# Altium footprint library 41.PcbLib: 28 footprints (part 1 of 2)
Each footprint in its own frame and in the unit in brackets; x right, y up, seen from the top. Pads: shape width x height; smd on the part's side, far side on the other; paste and mask are expansions set on the pad; w line width, h text height; cw(c..) or ccw(c..) is an arc to the next point about the centre after c.
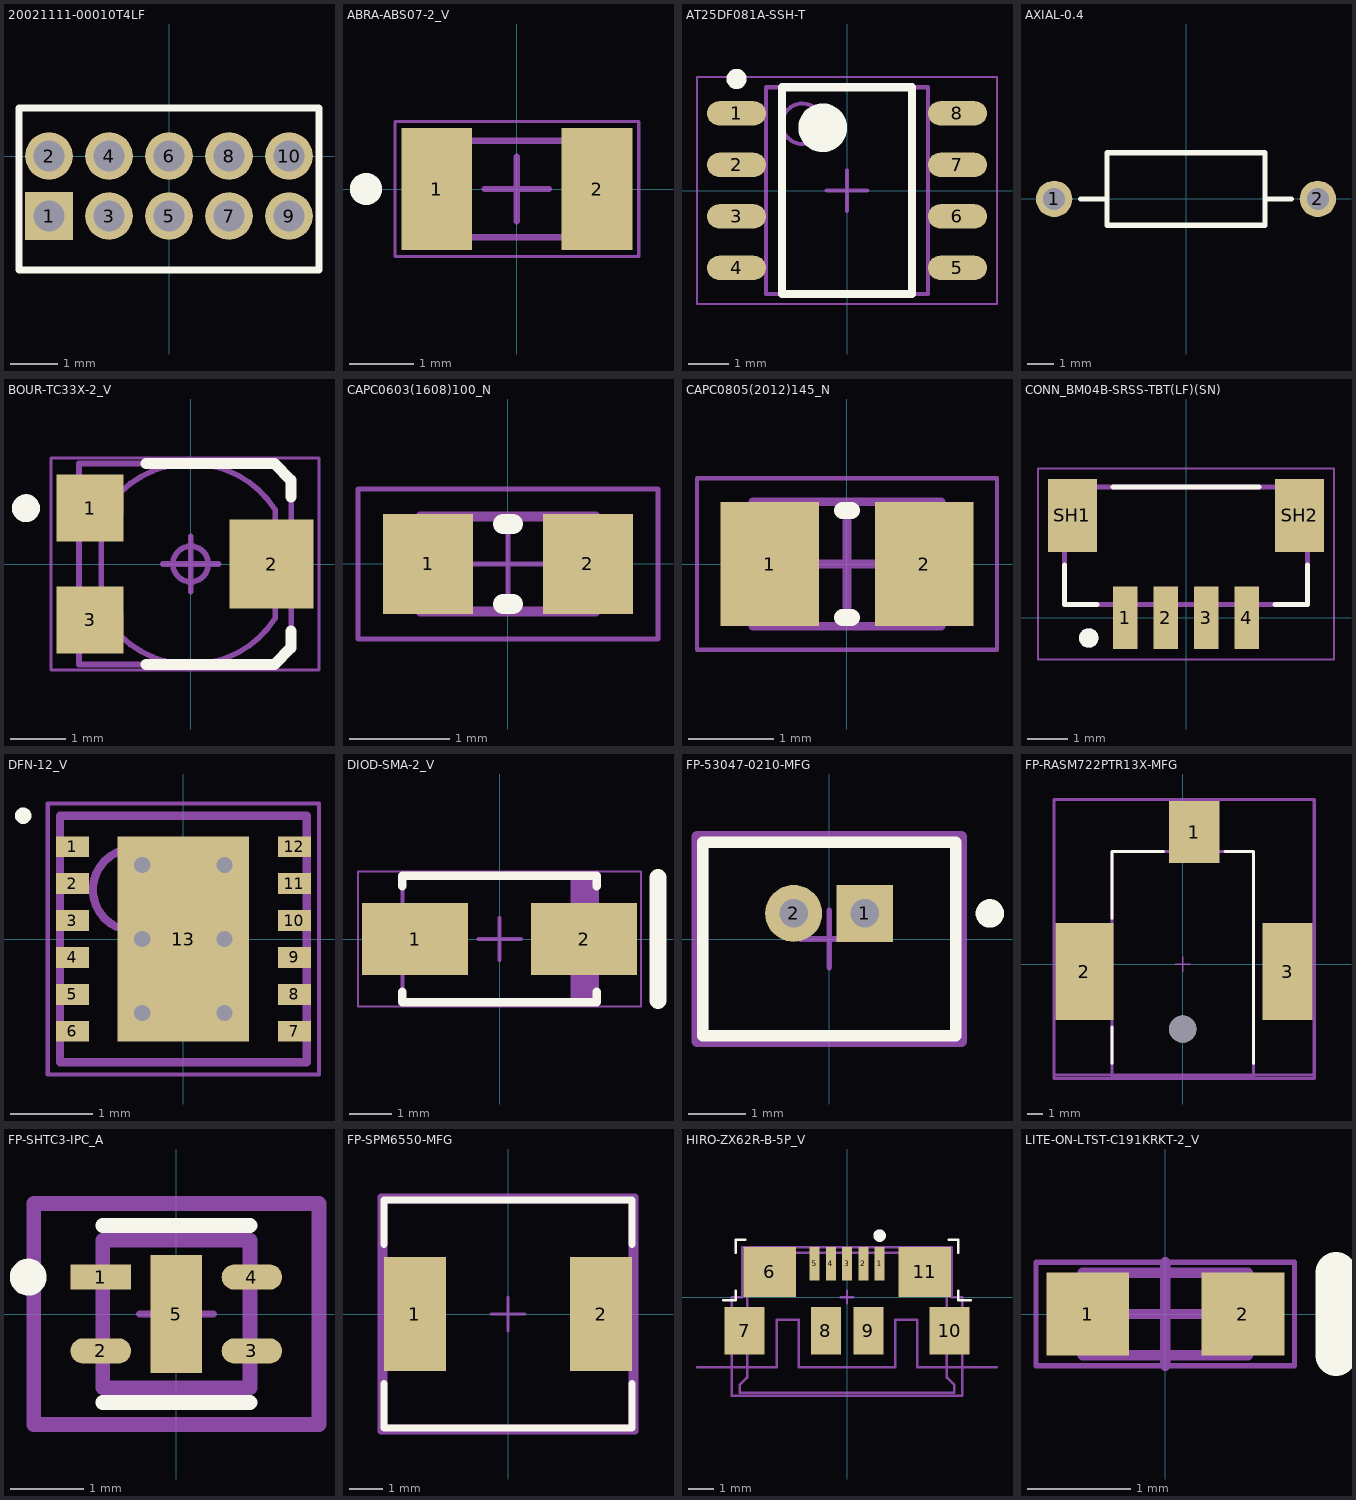
[diagram p0: the footprints below, top view; thin cyan lines are the x and y axes]

## 20021111-00010T4LF [mm] "CONN HEADER 10POS UNSHD VERT T/H"
pads (10):
  rect 1.006x1.006 hole 0.65: 1(-2.54,-1.27)
  round 1.006 hole 0.65: 2(-2.54,0) 3(-1.27,-1.27) 4(-1.27,0) 5(0,-1.27) 6(0,0) 7(1.27,-1.27) 8(1.27,0) 9(2.54,-1.27) 10(2.54,0)
Top Overlay:
  lines w0.152: -3.175,-2.413 -3.175,1.016 3.175,1.016 3.175,-2.413 -3.175,-2.413
3D body: height 5.5, standoff -2.35, extent -3.175,-2.335 3.175,1.065

## ABRA-ABS07-2_V [mm] "Hand Drawn, 2-Leads, Body 3.2x1.5mm, Pitch 2.5mm"
height 0.9
pads (2):
  rect 1.1x1.9 smd: 1(-1.25,0) 2(1.25,0)
Top Overlay:
  circle w0.25: c-2.35,0 r0.125
Mechanical 13:
  lines w0.1: -1.6,-0.75 -1.6,0.75 1.6,0.75 1.6,-0.75 -1.6,-0.75
Mechanical 15:
  lines w0.05: -1.9,-1.05 -1.9,1.05 1.9,1.05 1.9,-1.05 -1.9,-1.05
  lines w0.1: -0.5,0 0.5,0 ; 0,-0.5 0,0.5
3D body: height 0.9, standoff 0, extent -1.6,-0.75 1.6,0.75

## AT25DF081A-SSH-T [mm] "IC FLASH 8MBIT 100MHZ 8SOIC"
height 1.75
pads (8):
  oval 1.45x0.6 smd: 1(-2.725,1.905) 2(-2.725,0.635) 3(-2.725,-0.635) 4(-2.725,-1.905) 5(2.725,-1.905) 6(2.725,-0.635) 7(2.725,0.635) 8(2.725,1.905)
Top Overlay:
  circle w0.6: c-0.6,1.55 r0.3
  circle w0.25: c-2.725,2.755 r0.125
  lines w0.2: -1.6,-2.55 1.6,-2.55 1.6,2.55 -1.6,2.55 -1.6,-2.55
Mechanical 13:
  circle w0.1: c-1.1,1.65 r0.5
  lines w0.1: -2,-2.55 2,-2.55 2,2.55 -2,2.55 -2,-2.55
Mechanical 15:
  lines w0.05: -3.7,-2.8 3.7,-2.8 3.7,2.8 -3.7,2.8 -3.7,-2.8
  lines w0.1: -0.5,0 0.5,0 ; 0,-0.5 0,0.5
3D body: height 1.75, standoff 0, extent -2.997,-2.55 2.997,2.55

## AXIAL-0.4 [mm] "Axial Device, Thru-Hole; 2 Leads; 0.4 in Pin Spacing"
height 2.032
pads (2):
  round 1.4 hole 0.85: 1(-5.08,0) 2(5.08,0)
Top Overlay:
  lines w0.2: -4.064,0 -3.048,0 ; 3.048,0 4.064,0 ; -3.048,-1.016 -3.048,1.778 3.048,1.778 3.048,-1.016 -3.048,-1.016
3D body: height 3.54, standoff -2.54, extent -5.232,-1.651 5.486,1.856

## BOUR-TC33X-2_V [mm] "SMD, 3-Leads, Body 3.8x3.6mm"
height 1.2
pads (3):
  rect 1.2x1.2 smd: 1(-1.8,1) 3(-1.8,-1)
  rect 1.5x1.6 smd: 2(1.45,0)
Top Overlay:
  circle w0.25: c-2.95,1 r0.125
  lines w0.2: -0.8,-1.8 1.5,-1.8 1.8,-1.5 1.8,-1.2 ; -0.8,1.8 1.5,1.8 1.8,1.5 1.8,1.2
Mechanical 13:
  lines w0.1: 1.515,-0.73 1.95,-0.73 1.95,-0.425 1.8,-0.425 ; 1.515,0.73 1.95,0.73 1.95,0.425 1.8,0.425 ; 1.8,-0.75 1.8,-1.5 1.5,-1.8 -2,-1.8 -2,1.8 1.5,1.8 1.8,1.5 1.8,0.75 ; 1.8,-0.42 1.8,0.42 ; -1.6,-0.895 -1.6,0.895 -1.25,0.895 -1.25,1.295 cw(c0,0) 1.515,0.972 1.515,0.352 cw(c1.16,0) 1.515,-0.352 1.515,-0.972 cw(c0,0) -1.25,-1.295 -1.25,-0.895 -1.6,-0.895 ; 0,-0.318 ccw(c0,0) 0,0.317 ccw(c0,0) 0,-0.318
Mechanical 15:
  lines w0.05: -2.5,-1.9 -2.5,1.9 2.3,1.9 2.3,-1.9 -2.5,-1.9
  lines w0.1: -0.5,0 0.5,0 ; 0,-0.5 0,0.5
3D body: height 1.15, standoff 0, extent -2,-1.8 1.963,1.8

## CAPC0603(1608)100_N [mm] "Chip Capacitor, Body 1.6x0.8mm, Height 1.0mm, IPC Medium Density"
height 1
pads (2):
  rect 0.9x1 smd: 1(-0.8,0) 2(0.8,0)
Top Overlay:
  lines w0.2: -0.05,-0.4 0.05,-0.4 ; -0.05,0.4 0.05,0.4
Mechanical 13:
  lines w0.1: -0.875,-0.475 0.875,-0.475 0.875,0.475 -0.875,0.475 -0.875,-0.475
Mechanical 15:
  lines w0.05: -0.475,0 0.475,0 ; 0,-0.475 0,0.475 ; -1.5,-0.75 1.5,-0.75 1.5,0.75 -1.5,0.75 -1.5,-0.75
3D body: height 1, standoff 0, extent 0.525,-0.475 0.875,0.475
3D body: height 1, standoff 0, extent -0.875,-0.475 -0.525,0.475
3D body: height 1, standoff 0, extent -0.525,-0.475 0.525,0.475

## CAPC0805(2012)145_N [mm] "Chip Capacitor, Body 2.0x1.2mm, Height 1.45mm, IPC Medium Density"
height 1.45
pads (2):
  rect 1.15x1.45 smd: 1(-0.9,0) 2(0.9,0)
Top Overlay:
  lines w0.2: -0.05,-0.625 0.05,-0.625 ; -0.05,0.625 0.05,0.625
Mechanical 13:
  lines w0.1: -1.1,-0.725 1.1,-0.725 1.1,0.725 -1.1,0.725 -1.1,-0.725
Mechanical 15:
  lines w0.05: -1.75,-1 1.75,-1 1.75,1 -1.75,1 -1.75,-1
  lines w0.1: -0.5,0 0.5,0 ; 0,-0.5 0,0.5
3D body: height 1.45, standoff 0, extent 0.6,-0.725 1.1,0.725
3D body: height 1.45, standoff 0, extent -1.1,-0.725 -0.6,0.725
3D body: height 1.45, standoff 0, extent -0.6,-0.725 0.6,0.725

## CONN_BM04B-SRSS-TBT(LF)(SN) [mm]
pads (6):
  rect 0.6x1.55 smd: 1(-1.5,0) 2(-0.5,0) 3(0.5,0) 4(1.5,0)
  rect 1.2x1.8 smd: SH1(-2.8,2.525) SH2(2.8,2.525)
Top Overlay:
  circle w0.24: c-2.4,-0.5 r0.12
  lines w0.127: -3,1.3 -3,0.325 -2.2,0.325 ; -1.8,3.225 1.8,3.225 ; 2.2,0.325 3,0.325 3,1.3
Mechanical 13:
  circle w0.24: c-2.4,-0.5 r0.12
  lines w0.127: -3,0.325 -3,3.225 3,3.225 3,0.325 -3,0.325
Mechanical 15:
  lines w0.05: -3.65,-1.025 -3.65,3.675 3.65,3.675 3.65,-1.025 -3.65,-1.025
3D body: height 4.36, standoff 0.01, extent -3,-0.372 3,3.228

## DFN-12_V [mm] "SON, 12-Leads, Body 3x3mm, Pitch 0.45mm, Thermal Pad 2.5x1.6mm"
height 0.9
pads (13):
  rect 0.4x0.25 smd: 1(-1.35,1.125) 2(-1.35,0.675) 3(-1.35,0.225) 4(-1.35,-0.225) 5(-1.35,-0.675) 6(-1.35,-1.125) 7(1.35,-1.125) 8(1.35,-0.675) 9(1.35,-0.225) 10(1.35,0.225) 11(1.35,0.675) 12(1.35,1.125)
  rect 1.6x2.5 smd mask+0.102: 13(0,0)
via -0.5,0.9 diameter 0.5 hole 0.2
via -0.5,0 diameter 0.5 hole 0.2
via -0.5,-0.9 diameter 0.5 hole 0.2
via 0.5,-0.9 diameter 0.5 hole 0.2
via 0.5,0 diameter 0.5 hole 0.2
via 0.5,0.9 diameter 0.5 hole 0.2
Top Overlay:
  circle w0.1: c-1.95,1.5 r0.05
Mechanical 13:
  circle w0.1: c-0.6,0.6 r0.5
  lines w0.1: -1.5,-1.5 1.5,-1.5 1.5,1.5 -1.5,1.5 -1.5,-1.5
Mechanical 15:
  lines w0.05: -1.65,-1.65 -1.65,1.65 1.65,1.65 1.65,-1.65 -1.65,-1.65
  lines w0.1: -0.5,0 0.5,0 ; 0,-0.5 0,0.5
3D body: height 0.9, standoff 0, extent -1.5,-1.5 1.5,1.5

## DIOD-SMA-2_V [mm] "Molded Diode, 2-Leads, Body 4.6x2.92mm"
height 2.4
pads (2):
  rect 2.5x1.7 smd: 1(-2,0) 2(2,0)
Top Overlay:
  lines w0.2: -2.3,-1.25 -2.3,-1.5 2.3,-1.5 2.3,-1.25 ; -2.3,1.25 -2.3,1.5 2.3,1.5 2.3,1.25
  lines w0.4: 3.75,-1.46 3.75,1.46
Mechanical 13:
  rectangle: 1.681,-1.46 2.3,1.46
  lines w0.1: -2.3,-1.46 -2.3,1.46 2.3,1.46 2.3,-1.46 -2.3,-1.46
Mechanical 15:
  lines w0.05: -3.35,-1.6 -3.35,1.6 3.35,1.6 3.35,-1.6 -3.35,-1.6
  lines w0.1: -0.5,0 0.5,0 ; 0,-0.5 0,0.5
3D body: height 2.4, standoff 0, extent -2.52,-1.46 2.52,1.46

## FP-53047-0210-MFG [mm]
pads (2):
  rect 1x1 hole 0.5 paste-1000 mask+0: 1(0.625,0.45)
  round 1 hole 0.5 paste-1000 mask+0: 2(-0.625,0.45)
Top Overlay:
  circle w0.25: c2.825,0.45 r0.125
  lines w0.2: -2.225,-1.7 2.225,-1.7 2.225,1.7 -2.225,1.7 -2.225,-1.7
Mechanical 5:
  lines w0.2: -2.325,-1.8 2.325,-1.8 2.325,1.8 -2.325,1.8 -2.325,-1.8
Mechanical 13:
  lines w0.2: -2.225,-1.7 2.225,-1.7 2.225,1.7 -2.225,1.7 -2.225,-1.7
Mechanical 15:
  lines w0.2: -2.325,-1.8 2.325,-1.8 2.325,1.8 -2.325,1.8 -2.325,-1.8
Mechanical 16:
  lines w0.1: -0.5,0 0.5,0 ; 0,-0.5 0,0.5
3D body: height 0.25, standoff 0, extent -2.325,-1.8 2.325,1.8

## FP-RASM722PTR13X-MFG [mm]
pads (4):
  rect 3.3x4.06 smd paste+0 mask+0: 1(0.76,8.65)
  rect 3.81x6.35 smd paste+0 mask+0: 2(-6.43,-0.49)
  rect 3.3x6.35 smd paste+0 mask+0: 3(6.86,-0.49)
  round 1.78 hole 1.78 unplated paste-1000 mask+0: ""(0,-4.25)
Top Overlay:
  lines w0.2: -4.627,-6.5 -4.627,-4.1 ; -4.627,3 -4.627,7.377 -1.265,7.377 ; 2.785,7.377 4.627,7.377 4.627,-6.5
Mechanical 5:
  lines w0.2: -8.435,-7.477 8.61,-7.477 8.61,10.78 -8.435,10.78 -8.435,-7.477
  text ".Designator" at 0.087,1.839 h1
Mechanical 13:
  lines w0.2: -8.435,-7.25 8.61,-7.25 ; -4.627,-7.377 4.627,-7.377 4.627,7.377 -4.627,7.377 -4.627,-7.377
Mechanical 15:
  lines w0.2: -8.435,-7.477 8.61,-7.477 8.61,10.78 -8.435,10.78 -8.435,-7.477
Mechanical 16:
  lines w0.1: -0.5,0 0.5,0 ; 0,-0.5 0,0.5
3D body: height 0.25, standoff 0, extent -8.435,-7.477 8.61,10.78

## FP-SHTC3-IPC_A [mm]
pads (5):
  rect 0.821x0.341 smd paste+0 mask+0: 1(-1.025,0.5)
  rrect100% 0.821x0.341 smd paste+0 mask+0: 2(-1.025,-0.5) 3(1.025,-0.5) 4(1.025,0.5)
  rect 0.7x1.6 smd paste-1000 mask+0: 5(0,0)
Top Overlay:
  circle w0.25: c-2.01,0.5 r0.125
  lines w0.2: -1,-1.2 1,-1.2 ; -1,1.2 1,1.2
Top Paste:
  rectangle: -0.178,-0.628 0.178,0.628
Mechanical 5:
  lines w0.2: -1.935,-1.5 1.935,-1.5 1.935,1.5 -1.935,1.5 -1.935,-1.5
Mechanical 13:
  lines w0.2: -1,-1 1,-1 1,1 -1,1 -1,-1
Mechanical 15:
  lines w0.2: -1.935,-1.5 1.935,-1.5 1.935,1.5 -1.935,1.5 -1.935,-1.5
Mechanical 16:
  lines w0.1: -0.5,0 0.5,0 ; 0,-0.5 0,0.5
3D body: height 0.75, standoff 0, extent -1,-1 1,1

## FP-SPM6550-MFG [mm]
pads (2):
  rect 1.85x3.4 smd paste+0 mask+0: 1(-2.775,0) 2(2.775,0)
Top Overlay:
  lines w0.2: -3.7,-2.075 -3.7,-3.4 3.7,-3.4 3.7,-2.075 ; -3.7,2.075 -3.7,3.4 3.7,3.4 3.7,2.075
Mechanical 5:
  lines w0.2: -3.8,-3.5 3.8,-3.5 3.8,3.5 -3.8,3.5 -3.8,-3.5
  text ".Designator" at 0,0.188 h1
Mechanical 13:
  lines w0.2: -3.7,-3.4 3.7,-3.4 3.7,3.4 -3.7,3.4 -3.7,-3.4
Mechanical 15:
  lines w0.2: -3.8,-3.5 3.8,-3.5 3.8,3.5 -3.8,3.5 -3.8,-3.5
Mechanical 16:
  lines w0.1: -0.5,0 0.5,0 ; 0,-0.5 0,0.5
3D body: height 4.51, standoff 0, extent -3.523,-3.523 3.777,3.777

## HIRO-ZX62R-B-5P_V [mm] "USB Micro-B R/A Connector"
height 2.65
pads (11):
  rect 0.4x1.35 smd: 1(1.3,1.338) 2(0.65,1.338) 3(0,1.338) 4(-0.65,1.338) 5(-1.3,1.338)
  rect 2.1x2 smd: 6(-3.1,1.012) 11(3.1,1.012)
  rect 1.6x1.9 smd: 7(-4.1,-1.338) 10(4.1,-1.338)
  rect 1.2x1.9 smd: 8(-0.85,-1.338) 9(0.85,-1.338)
Top Overlay:
  circle w0.25: c1.304,2.46 r0.125
  lines w0.1: -4.953,-0.127 -4.445,-0.127 -4.445,0.254 ; -4.445,1.778 -4.445,2.286 -4.064,2.286 ; 4.064,2.286 4.445,2.286 4.445,1.778 ; 4.445,0.254 4.445,-0.127 4.953,-0.127
Mechanical 1:
  lines w0.1: -6,-2.8 -2.82,-2.8 -2.82,-0.9 -1.92,-0.9 -1.92,-2.8 0,-2.8 1.92,-2.8 1.92,-0.9 2.82,-0.9 2.82,-2.8 6,-2.8
  text "Board edge" at 5.588,-2.667 h0.2
Mechanical 13:
  lines w0.1: -4,1.78 4,1.78 ; -4,1.78 4,1.78 ; -4,1.78 -4,-0.72 -4.572,-0.72 -4.572,-1.778 -4,-1.778 -4,-3.22 -4.3,-3.52 -4.3,-3.82 4.3,-3.82 4.3,-3.52 4,-3.22 4,-1.778 4.572,-1.778 4.572,-0.72 4,-0.72 4,1.78
Mechanical 15:
  lines w0.1: -0.254,0 0.254,0 ; 0,-0.254 0,0.254 ; -4.6,-3.937 4.6,-3.937 4.6,-2.8 4.6,0 4.2,0 4.2,2 -4.2,2 -4.2,0 -4.6,0 -4.6,-2.8 -4.6,-3.937
3D body: height 2.71, standoff -0.23, extent -4.4,-3.953 4.4,1.778

## LITE-ON-LTST-C191KRKT-2_V [mm] "Chip, 2-Leads, Body 1.6x0.8mm"
height 0.55
pads (2):
  rect 0.8x0.8 smd: 1(-0.75,0) 2(0.75,0)
Top Overlay:
  lines w0.4: 1.65,-0.4 1.65,0.4
Mechanical 13:
  lines w0.1: -0.55,-0.4 -0.55,0.4 ; 0.55,-0.4 0.55,0.4 ; -0.8,-0.4 0.8,-0.4 0.8,0.4 -0.8,0.4 -0.8,-0.4
Mechanical 15:
  lines w0.05: -1.25,-0.5 -1.25,0.5 1.25,0.5 1.25,-0.5 -1.25,-0.5
  lines w0.1: -0.5,0 0.5,0 ; 0,-0.5 0,0.5
3D body: height 0.18, standoff 0, extent -0.8,-0.4 0.8,0.4
3D body: height 0.55, standoff 0.18, extent -0.55,-0.4 0.55,0.4